# Altium integrated library Microchip Thermal Management.IntLib: 360 symbols (part 4 of 10)
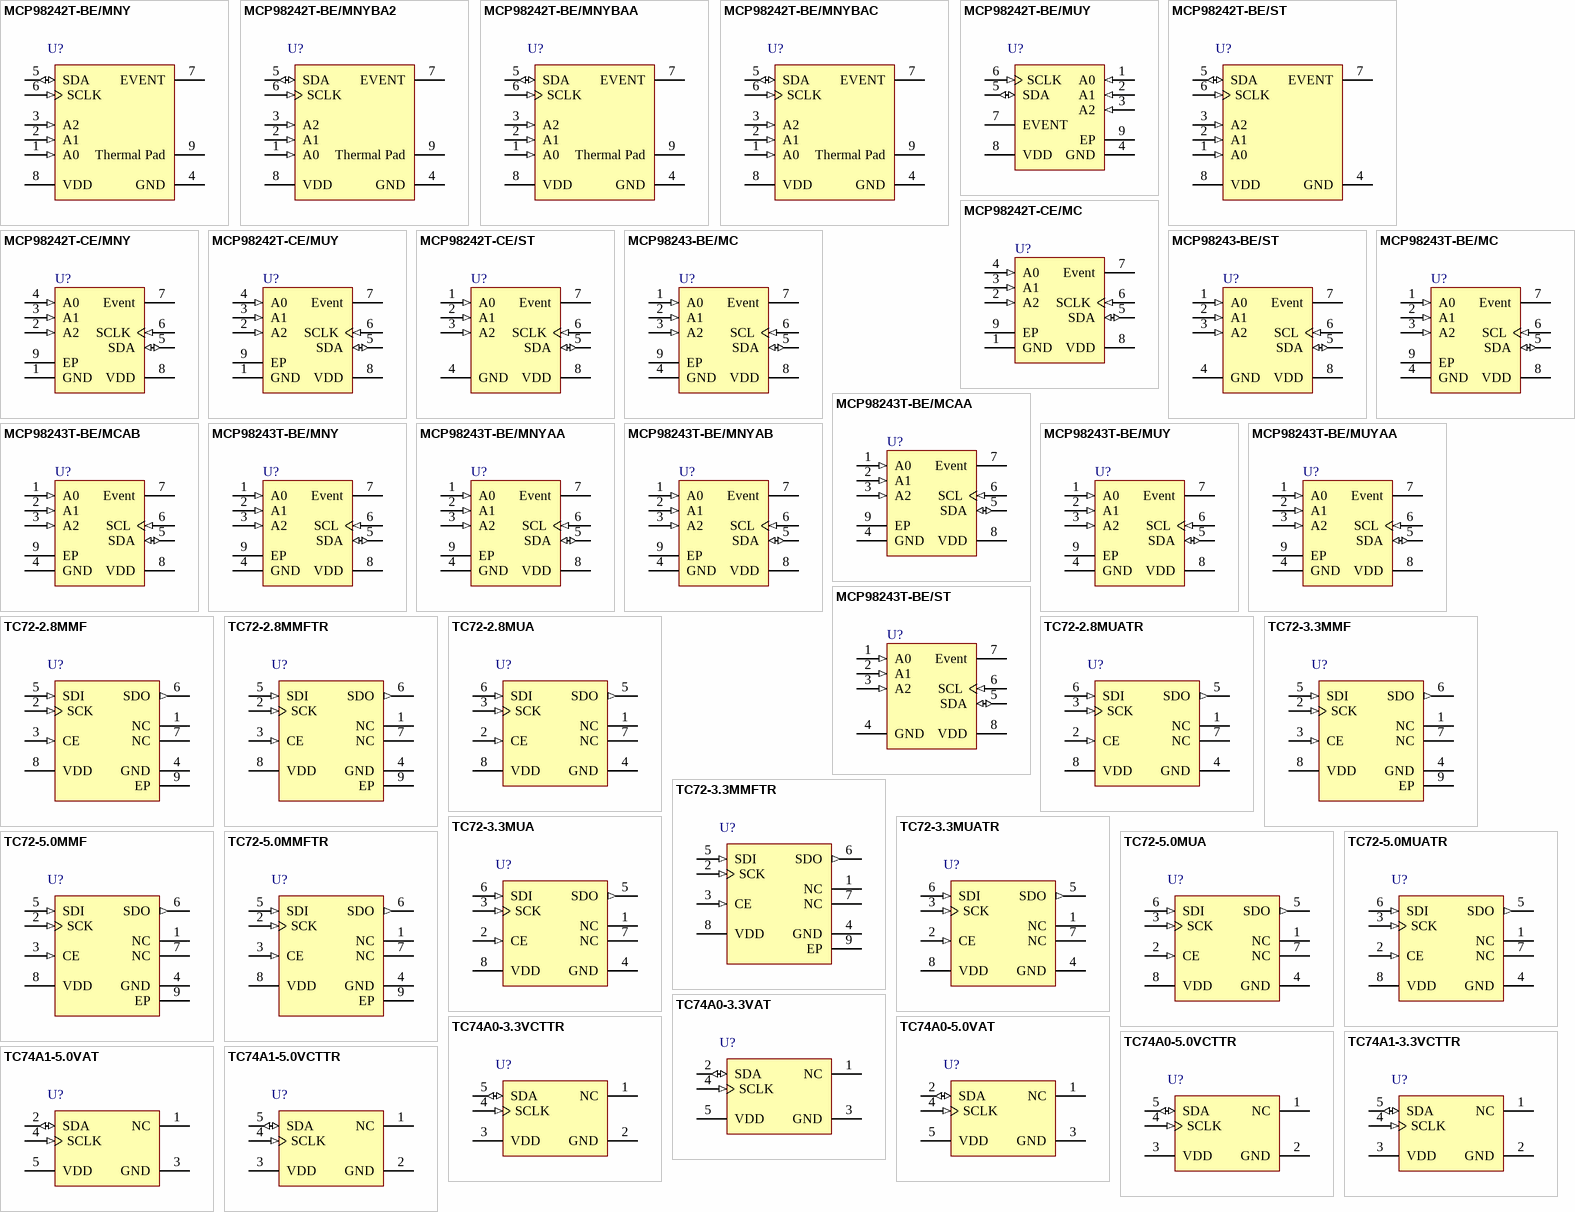
[diagram p12: symbols MCP98242T-BE/MNY to TC74A1-5.0VCTTR]

## TC72-3.3MUATR
designator U?
Digital Temperature Sensor with SPI Interface, 8-Pin MSOP, -55°C to +125°C Temperature, Tape and Reel; Manufacturer: Microchip; PartNumber: TC72-3.3MUATR; DatasheetVersion: revA, Aug-2008; PackageVersion: revBB, Aug-2009; PackageReference: MSOP-UA8; PackageDescription: 8-Lead Plastic Micro Small Outline Package (UA) [MSOP]; Supplier 1: Digi-Key; Supplier Part Number 1: TC72-3.3MUATR-ND; Supplier 2: Mouser; Supplier Part Number 2: 579-TC72-3.3MUATR; Mounting Technology: Surface Mount; Code_JEDEC: MO-187-AA; ComponentLink1Description: Manufacturer URL; ComponentLink1URL: http://www.microchip.com/; ComponentLink2Description: Datasheet; ComponentLink2URL: http://ww1.microchip.com/downloads/en/DeviceDoc/21743a.pdf; ComponentLink3Description: Package Specification; ComponentLink3URL: http://www.microchip.com/stellent/groups/techpub_sg/documents/packagingspec/en012702.pdf
footprint MSOP-UA8_N (TSOP, 8-Leads, Body 3x3mm, Pitch 0.65mm, IPC Medium Density)
footprint MSOP-UA8_L (TSOP, 8-Leads, Body 3x3mm, Pitch 0.65mm, IPC High Density)
footprint MSOP-UA8_M (TSOP, 8-Leads, Body 3x3mm, Pitch 0.65mm, IPC Low Density)
pins: 1 NC, 2 CE (in), 3 SCK (in), 4 GND (power), 5 SDO (out), 6 SDI (in), 7 NC, 8 VDD (power)

## TC72-5.0MMF
designator U?
Digital Temperature Sensor with SPI Interface, 8-Pin DFN, -55°C to +125°C Temperature; Manufacturer: Microchip; PartNumber: TC72-5.0MMF; DatasheetVersion: revA, Aug-2008; PackageVersion: revBB, Aug-2009; PackageReference: DFN-MF8; PackageDescription: 8-Lead Plastic Dual Flat, No Lead Package (MF) - 3x3x0.9mm Body [DFN]; Mounting Technology: Surface Mount; ComponentLink1Description: Manufacturer URL; ComponentLink1URL: http://www.microchip.com/; ComponentLink2Description: Datasheet; ComponentLink2URL: http://ww1.microchip.com/downloads/en/DeviceDoc/21743a.pdf; ComponentLink3Description: Package Specification; ComponentLink3URL: http://www.microchip.com/stellent/groups/techpub_sg/documents/packagingspec/en012702.pdf
footprint DFN-MF8 (SON, 8-Leads, Body 3x3mm, Pitch 0.65mm, Microchip Recommended)
pins: 1 NC, 2 SCK (in), 3 CE (in), 4 GND (power), 5 SDI (in), 6 SDO (out), 7 NC, 8 VDD (power), 9 EP (power)

## TC72-5.0MMFTR
designator U?
Digital Temperature Sensor with SPI Interface, 8-Pin DFN, -55°C to +125°C Temperature, Tape and Reel; Manufacturer: Microchip; PartNumber: TC72-5.0MMFTR; DatasheetVersion: revA, Aug-2008; PackageVersion: revBB, Aug-2009; PackageReference: DFN-MF8; PackageDescription: 8-Lead Plastic Dual Flat, No Lead Package (MF) - 3x3x0.9mm Body [DFN]; Supplier 1: Digi-Key; Supplier Part Number 1: TC72-5.0MMFTR-ND; Supplier 2: Mouser; Supplier Part Number 2: 579-TC72-5.0MMFTR; Mounting Technology: Surface Mount; ComponentLink1Description: Manufacturer URL; ComponentLink1URL: http://www.microchip.com/; ComponentLink2Description: Datasheet; ComponentLink2URL: http://ww1.microchip.com/downloads/en/DeviceDoc/21743a.pdf; ComponentLink3Description: Package Specification; ComponentLink3URL: http://www.microchip.com/stellent/groups/techpub_sg/documents/packagingspec/en012702.pdf
footprint DFN-MF8 (SON, 8-Leads, Body 3x3mm, Pitch 0.65mm, Microchip Recommended)
pins: 1 NC, 2 SCK (in), 3 CE (in), 4 GND (power), 5 SDI (in), 6 SDO (out), 7 NC, 8 VDD (power), 9 EP (power)

## TC72-5.0MUA
designator U?
Digital Temperature Sensor with SPI Interface, 8-Pin MSOP, -55°C to +125°C Temperature; Manufacturer: Microchip; PartNumber: TC72-5.0MUA; DatasheetVersion: revA, Aug-2008; PackageVersion: revBB, Aug-2009; PackageReference: MSOP-UA8; PackageDescription: 8-Lead Plastic Micro Small Outline Package (UA) [MSOP]; Supplier 1: Digi-Key; Supplier Part Number 1: TC72-5.0MUA-ND; Supplier 2: Farnell; Supplier Part Number 2: 1467819; Supplier 3: Newark; Supplier Part Number 3: 69K7657; Supplier 4: Mouser; Supplier Part Number 4: 579-TC72-5.0MUA; Mounting Technology: Surface Mount; Code_JEDEC: MO-187-AA; ComponentLink1Description: Manufacturer URL; ComponentLink1URL: http://www.microchip.com/; ComponentLink2Description: Datasheet; ComponentLink2URL: http://ww1.microchip.com/downloads/en/DeviceDoc/21743a.pdf; ComponentLink3Description: Package Specification; ComponentLink3URL: http://www.microchip.com/stellent/groups/techpub_sg/documents/packagingspec/en012702.pdf
footprint MSOP-UA8_N (TSOP, 8-Leads, Body 3x3mm, Pitch 0.65mm, IPC Medium Density)
footprint MSOP-UA8_L (TSOP, 8-Leads, Body 3x3mm, Pitch 0.65mm, IPC High Density)
footprint MSOP-UA8_M (TSOP, 8-Leads, Body 3x3mm, Pitch 0.65mm, IPC Low Density)
pins: 1 NC, 2 CE (in), 3 SCK (in), 4 GND (power), 5 SDO (out), 6 SDI (in), 7 NC, 8 VDD (power)

## TC72-5.0MUATR
designator U?
Digital Temperature Sensor with SPI Interface, 8-Pin MSOP, -55°C to +125°C Temperature, Tape and Reel; Manufacturer: Microchip; PartNumber: TC72-5.0MUATR; DatasheetVersion: revA, Aug-2008; PackageVersion: revBB, Aug-2009; PackageReference: MSOP-UA8; PackageDescription: 8-Lead Plastic Micro Small Outline Package (UA) [MSOP]; Supplier 1: Digi-Key; Supplier Part Number 1: TC72-5.0MUATR-ND; Supplier 2: Mouser; Supplier Part Number 2: 579-TC72-5.0MUATR; Mounting Technology: Surface Mount; Code_JEDEC: MO-187-AA; ComponentLink1Description: Manufacturer URL; ComponentLink1URL: http://www.microchip.com/; ComponentLink2Description: Datasheet; ComponentLink2URL: http://ww1.microchip.com/downloads/en/DeviceDoc/21743a.pdf; ComponentLink3Description: Package Specification; ComponentLink3URL: http://www.microchip.com/stellent/groups/techpub_sg/documents/packagingspec/en012702.pdf
footprint MSOP-UA8_N (TSOP, 8-Leads, Body 3x3mm, Pitch 0.65mm, IPC Medium Density)
footprint MSOP-UA8_L (TSOP, 8-Leads, Body 3x3mm, Pitch 0.65mm, IPC High Density)
footprint MSOP-UA8_M (TSOP, 8-Leads, Body 3x3mm, Pitch 0.65mm, IPC Low Density)
pins: 1 NC, 2 CE (in), 3 SCK (in), 4 GND (power), 5 SDO (out), 6 SDI (in), 7 NC, 8 VDD (power)

## TC74A0-3.3VAT
designator U?
Tiny Serial Digital Thermal Sensor, 5-Pin TO-220, Extended Temperature; Manufacturer: Microchip; PartNumber: TC74A0-3.3VAT; DatasheetVersion: revC, Oct-2002; PackageVersion: revBB, Aug-2009; PackageReference: TO-220-AT5; PackageDescription: 5-Lead Plastic Transistor Outline (AT) [TO-220]; Supplier 1: Digi-Key; Supplier Part Number 1: TC74A0-3.3VAT-ND; Supplier 2: Farnell; Supplier Part Number 2: 1863985; Supplier 3: Newark; Supplier Part Number 3: 92C6552; Supplier 4: Mouser; Supplier Part Number 4: 579-TC74A0-3.3VAT; Mounting Technology: Through Hole; ComponentLink1Description: Manufacturer URL; ComponentLink1URL: http://www.microchip.com/; ComponentLink2Description: Datasheet; ComponentLink2URL: http://ww1.microchip.com/downloads/en/DeviceDoc/21462c.pdf; ComponentLink3Description: Package Specification; ComponentLink3URL: http://www.microchip.com/stellent/groups/techpub_sg/documents/packagingspec/en012702.pdf
footprint TO-220-AT5 (TO, Thru-Hole, Vertical, Heatsink Mounted; 5 In-Line Leads; Pitch 1.70 mm)
pins: 1 NC, 2 SDA (io), 3 GND (power), 4 SCLK (in), 5 VDD (power)

## TC74A0-3.3VCTTR
designator U?
Tiny Serial Digital Thermal Sensor, 5-Pin SOT-23, Extended Temperature, Tape and Reel; Manufacturer: Microchip; PartNumber: TC74A0-3.3VCTTR; DatasheetVersion: revC, Oct-2002; PackageVersion: revBB, Aug-2009; PackageReference: SOT-23-CT5; PackageDescription: 5-Lead Plastic Small Outline Transistor (CT) [SOT-23]; Supplier 1: Digi-Key; Supplier Part Number 1: TC74A0-3.3VCTTR-ND; Supplier 2: Digi-Key; Supplier Part Number 2: TC74A0-3.3VCTCT-ND; Supplier 3: Digi-Key; Supplier Part Number 3: TC74A0-3.3VCTDKR-ND; Supplier 4: Farnell; Supplier Part Number 4: 1852306RL; Supplier 5: Farnell; Supplier Part Number 5: 1852306; Supplier 6: Newark; Supplier Part Number 6: 84R6274; Supplier 7: Mouser; Supplier Part Number 7: 579-TC74A0-3.3VCTTR; Mounting Technology: Surface Mount; Code_IPC: SOT23-5; ComponentLink1Description: Manufacturer URL; ComponentLink1URL: http://www.microchip.com/; ComponentLink2Description: Datasheet; ComponentLink2URL: http://ww1.microchip.com/downloads/en/DeviceDoc/21462c.pdf; ComponentLink3Description: Package Specification; ComponentLink3URL: http://www.microchip.com/stellent/groups/techpub_sg/documents/packagingspec/en012702.pdf
footprint SOT-23-CT5_N (SOT23, 5-Leads, Body 2.9x1.6mm, Pitch 0.95mm, Lead Span 2.7mm, IPC Medium Density)
footprint SOT-23-CT5_L (SOT23, 5-Leads, Body 2.9x1.6mm, Pitch 0.95mm, Lead Span 2.7mm, IPC High Density)
footprint SOT-23-CT5_M (SOT23, 5-Leads, Body 2.9x1.6mm, Pitch 0.95mm, Lead Span 2.7mm, IPC Low Density)
pins: 1 NC, 2 GND (power), 3 VDD (power), 4 SCLK (in), 5 SDA (io)

## TC74A0-5.0VAT
designator U?
Tiny Serial Digital Thermal Sensor, 5-Pin TO-220, Extended Temperature; Manufacturer: Microchip; PartNumber: TC74A0-5.0VAT; DatasheetVersion: revC, Oct-2002; PackageVersion: revBB, Aug-2009; PackageReference: TO-220-AT5; PackageDescription: 5-Lead Plastic Transistor Outline (AT) [TO-220]; Supplier 1: Digi-Key; Supplier Part Number 1: TC74A0-5.0VAT-ND; Supplier 2: Farnell; Supplier Part Number 2: 1332317; Supplier 3: Newark; Supplier Part Number 3: 92C6554; Supplier 4: Mouser; Supplier Part Number 4: 579-TC74A0-5.0VAT; Mounting Technology: Through Hole; ComponentLink1Description: Manufacturer URL; ComponentLink1URL: http://www.microchip.com/; ComponentLink2Description: Datasheet; ComponentLink2URL: http://ww1.microchip.com/downloads/en/DeviceDoc/21462c.pdf; ComponentLink3Description: Package Specification; ComponentLink3URL: http://www.microchip.com/stellent/groups/techpub_sg/documents/packagingspec/en012702.pdf
footprint TO-220-AT5 (TO, Thru-Hole, Vertical, Heatsink Mounted; 5 In-Line Leads; Pitch 1.70 mm)
pins: 1 NC, 2 SDA (io), 3 GND (power), 4 SCLK (in), 5 VDD (power)

## TC74A0-5.0VCTTR
designator U?
Tiny Serial Digital Thermal Sensor, 5-Pin SOT-23, Extended Temperature, Tape and Reel; Manufacturer: Microchip; PartNumber: TC74A0-5.0VCTTR; DatasheetVersion: revC, Oct-2002; PackageVersion: revBB, Aug-2009; PackageReference: SOT-23-CT5; PackageDescription: 5-Lead Plastic Small Outline Transistor (CT) [SOT-23]; Supplier 1: Digi-Key; Supplier Part Number 1: TC74A0-5.0VCTTR-ND; Supplier 2: Digi-Key; Supplier Part Number 2: TC74A0-5.0VCTCT-ND; Supplier 3: Digi-Key; Supplier Part Number 3: TC74A0-5.0VCTDKR-ND; Supplier 4: Farnell; Supplier Part Number 4: 9762671RL; Supplier 5: Farnell; Supplier Part Number 5: 9762671; Supplier 6: Newark; Supplier Part Number 6: 24M8121; Supplier 7: Newark; Supplier Part Number 7: 92C6555; Supplier 8: Mouser; Supplier Part Number 8: 579-TC74A0-5.0VCTTR; Mounting Technology: Surface Mount; Code_IPC: SOT23-5; ComponentLink1Description: Manufacturer URL; ComponentLink1URL: http://www.microchip.com/; ComponentLink2Description: Datasheet; ComponentLink2URL: http://ww1.microchip.com/downloads/en/DeviceDoc/21462c.pdf; ComponentLink3Description: Package Specification; ComponentLink3URL: http://www.microchip.com/stellent/groups/techpub_sg/documents/packagingspec/en012702.pdf
footprint SOT-23-CT5_N (SOT23, 5-Leads, Body 2.9x1.6mm, Pitch 0.95mm, Lead Span 2.7mm, IPC Medium Density)
footprint SOT-23-CT5_L (SOT23, 5-Leads, Body 2.9x1.6mm, Pitch 0.95mm, Lead Span 2.7mm, IPC High Density)
footprint SOT-23-CT5_M (SOT23, 5-Leads, Body 2.9x1.6mm, Pitch 0.95mm, Lead Span 2.7mm, IPC Low Density)
pins: 1 NC, 2 GND (power), 3 VDD (power), 4 SCLK (in), 5 SDA (io)

## TC74A1-3.3VCTTR
designator U?
Tiny Serial Digital Thermal Sensor, 5-Pin SOT-23, Extended Temperature, Tape and Reel; Manufacturer: Microchip; PartNumber: TC74A1-3.3VCTTR; DatasheetVersion: revC, Oct-2002; PackageVersion: revBB, Aug-2009; PackageReference: SOT-23-CT5; PackageDescription: 5-Lead Plastic Small Outline Transistor (CT) [SOT-23]; Supplier 1: Digi-Key; Supplier Part Number 1: TC74A1-3.3VCTTR-ND; Supplier 2: Newark; Supplier Part Number 2: 92C6557; Supplier 3: Mouser; Supplier Part Number 3: 579-TC74A1-3.3VCTTR; Mounting Technology: Surface Mount; Code_IPC: SOT23-5; ComponentLink1Description: Manufacturer URL; ComponentLink1URL: http://www.microchip.com/; ComponentLink2Description: Datasheet; ComponentLink2URL: http://ww1.microchip.com/downloads/en/DeviceDoc/21462c.pdf; ComponentLink3Description: Package Specification; ComponentLink3URL: http://www.microchip.com/stellent/groups/techpub_sg/documents/packagingspec/en012702.pdf
footprint SOT-23-CT5_N (SOT23, 5-Leads, Body 2.9x1.6mm, Pitch 0.95mm, Lead Span 2.7mm, IPC Medium Density)
footprint SOT-23-CT5_L (SOT23, 5-Leads, Body 2.9x1.6mm, Pitch 0.95mm, Lead Span 2.7mm, IPC High Density)
footprint SOT-23-CT5_M (SOT23, 5-Leads, Body 2.9x1.6mm, Pitch 0.95mm, Lead Span 2.7mm, IPC Low Density)
pins: 1 NC, 2 GND (power), 3 VDD (power), 4 SCLK (in), 5 SDA (io)

## TC74A1-5.0VAT
designator U?
Tiny Serial Digital Thermal Sensor, 5-Pin TO-220, Extended Temperature; Manufacturer: Microchip; PartNumber: TC74A1-5.0VAT; DatasheetVersion: revC, Oct-2002; PackageVersion: revBB, Aug-2009; PackageReference: TO-220-AT5; PackageDescription: 5-Lead Plastic Transistor Outline (AT) [TO-220]; Supplier 1: Digi-Key; Supplier Part Number 1: TC74A1-5.0VAT-ND; Supplier 2: Mouser; Supplier Part Number 2: 579-TC74A1-5.0VAT; Mounting Technology: Through Hole; ComponentLink1Description: Manufacturer URL; ComponentLink1URL: http://www.microchip.com/; ComponentLink2Description: Datasheet; ComponentLink2URL: http://ww1.microchip.com/downloads/en/DeviceDoc/21462c.pdf; ComponentLink3Description: Package Specification; ComponentLink3URL: http://www.microchip.com/stellent/groups/techpub_sg/documents/packagingspec/en012702.pdf
footprint TO-220-AT5 (TO, Thru-Hole, Vertical, Heatsink Mounted; 5 In-Line Leads; Pitch 1.70 mm)
pins: 1 NC, 2 SDA (io), 3 GND (power), 4 SCLK (in), 5 VDD (power)

## TC74A1-5.0VCTTR
designator U?
Tiny Serial Digital Thermal Sensor, 5-Pin SOT-23, Extended Temperature, Tape and Reel; Manufacturer: Microchip; PartNumber: TC74A1-5.0VCTTR; DatasheetVersion: revC, Oct-2002; PackageVersion: revBB, Aug-2009; PackageReference: SOT-23-CT5; PackageDescription: 5-Lead Plastic Small Outline Transistor (CT) [SOT-23]; Supplier 1: Digi-Key; Supplier Part Number 1: TC74A1-5.0VCTTR-ND; Supplier 2: Mouser; Supplier Part Number 2: 579-TC74A1-5.0VCTTR; Mounting Technology: Surface Mount; Code_IPC: SOT23-5; ComponentLink1Description: Manufacturer URL; ComponentLink1URL: http://www.microchip.com/; ComponentLink2Description: Datasheet; ComponentLink2URL: http://ww1.microchip.com/downloads/en/DeviceDoc/21462c.pdf; ComponentLink3Description: Package Specification; ComponentLink3URL: http://www.microchip.com/stellent/groups/techpub_sg/documents/packagingspec/en012702.pdf
footprint SOT-23-CT5_N (SOT23, 5-Leads, Body 2.9x1.6mm, Pitch 0.95mm, Lead Span 2.7mm, IPC Medium Density)
footprint SOT-23-CT5_L (SOT23, 5-Leads, Body 2.9x1.6mm, Pitch 0.95mm, Lead Span 2.7mm, IPC High Density)
footprint SOT-23-CT5_M (SOT23, 5-Leads, Body 2.9x1.6mm, Pitch 0.95mm, Lead Span 2.7mm, IPC Low Density)
pins: 1 NC, 2 GND (power), 3 VDD (power), 4 SCLK (in), 5 SDA (io)

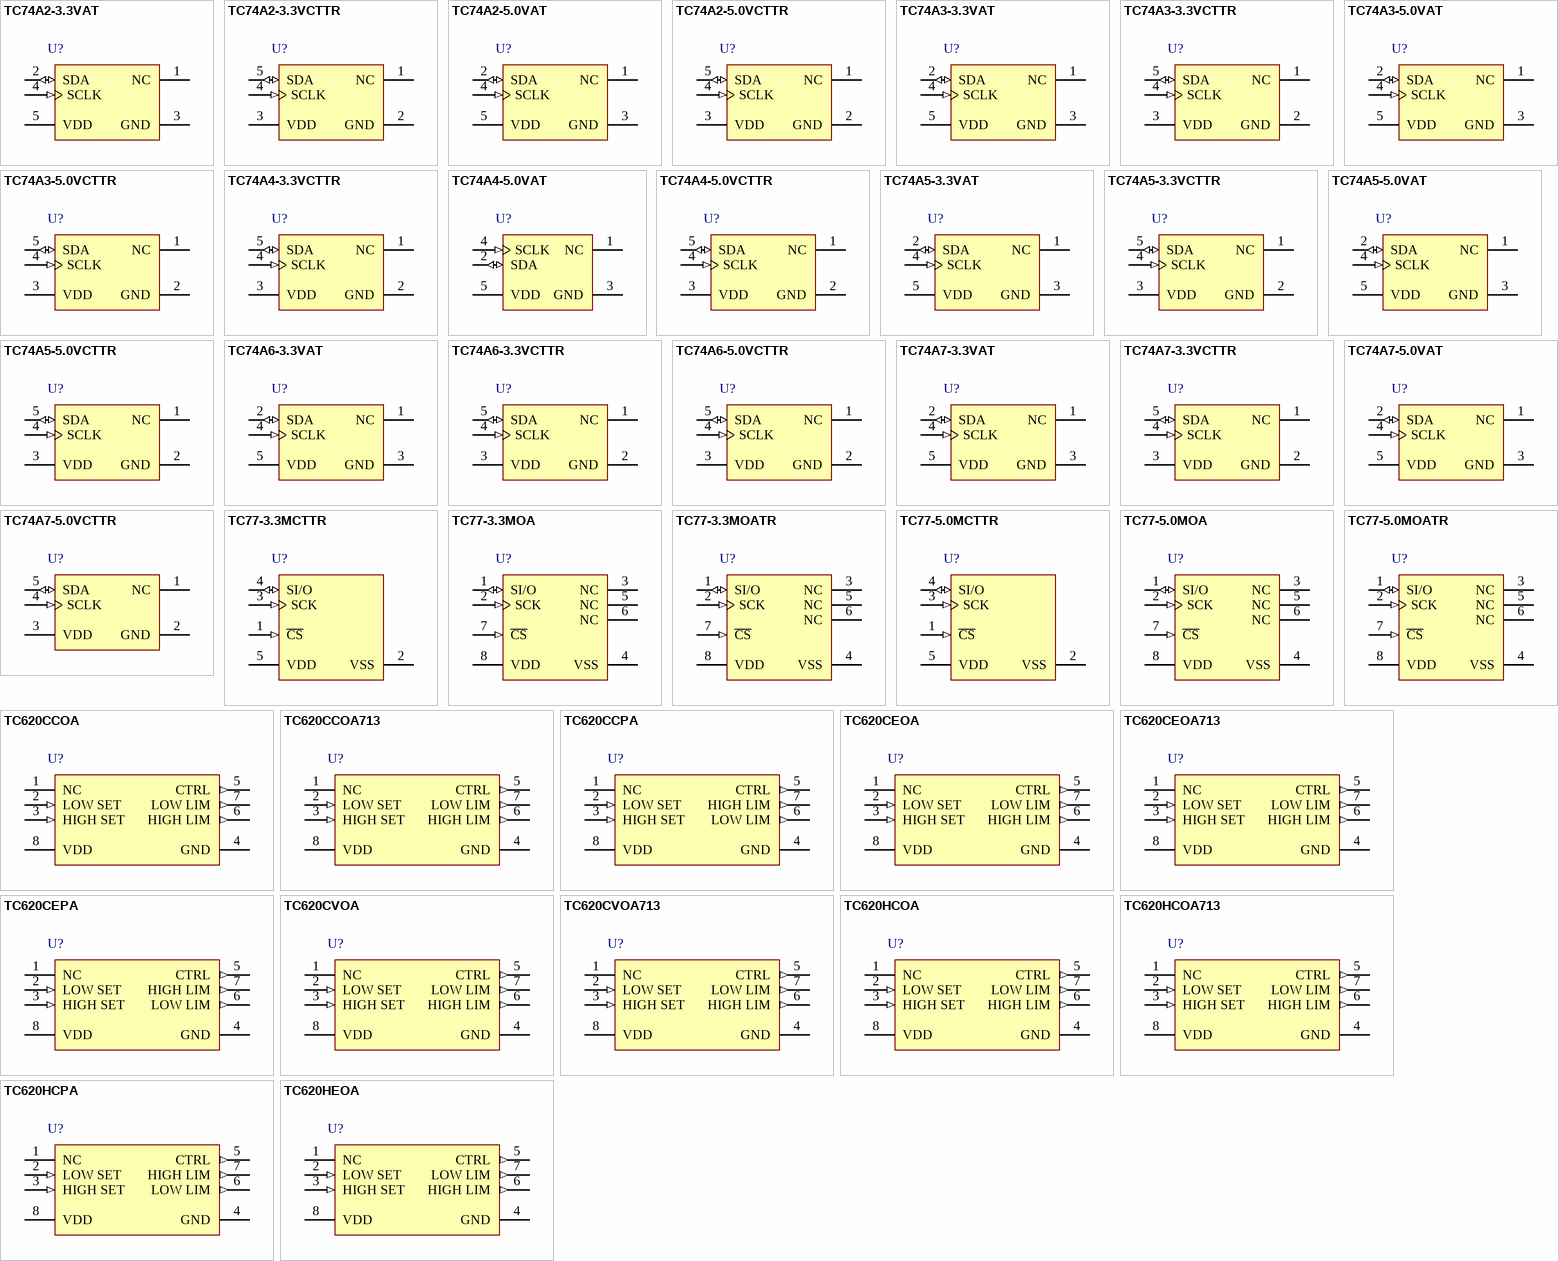
[diagram p3: symbols TC74A2-3.3VAT to TC620HEOA]

## TC74A2-3.3VAT
designator U?
Tiny Serial Digital Thermal Sensor, 5-Pin TO-220, Extended Temperature; Manufacturer: Microchip; PartNumber: TC74A2-3.3VAT; DatasheetVersion: revC, Oct-2002; PackageVersion: revBB, Aug-2009; PackageReference: TO-220-AT5; PackageDescription: 5-Lead Plastic Transistor Outline (AT) [TO-220]; Supplier 1: Digi-Key; Supplier Part Number 1: TC74A2-3.3VAT-ND; Supplier 2: Mouser; Supplier Part Number 2: 579-TC74A2-3.3VAT; Mounting Technology: Through Hole; ComponentLink1Description: Manufacturer URL; ComponentLink1URL: http://www.microchip.com/; ComponentLink2Description: Datasheet; ComponentLink2URL: http://ww1.microchip.com/downloads/en/DeviceDoc/21462c.pdf; ComponentLink3Description: Package Specification; ComponentLink3URL: http://www.microchip.com/stellent/groups/techpub_sg/documents/packagingspec/en012702.pdf
footprint TO-220-AT5 (TO, Thru-Hole, Vertical, Heatsink Mounted; 5 In-Line Leads; Pitch 1.70 mm)
pins: 1 NC, 2 SDA (io), 3 GND (power), 4 SCLK (in), 5 VDD (power)

## TC74A2-3.3VCTTR
designator U?
Tiny Serial Digital Thermal Sensor, 5-Pin SOT-23, Extended Temperature, Tape and Reel; Manufacturer: Microchip; PartNumber: TC74A2-3.3VCTTR; DatasheetVersion: revC, Oct-2002; PackageVersion: revBB, Aug-2009; PackageReference: SOT-23-CT5; PackageDescription: 5-Lead Plastic Small Outline Transistor (CT) [SOT-23]; Supplier 1: Digi-Key; Supplier Part Number 1: TC74A2-3.3VCTTR-ND; Supplier 2: Newark; Supplier Part Number 2: 92C6561; Supplier 3: Mouser; Supplier Part Number 3: 579-TC74A2-3.3VCTTR; Mounting Technology: Surface Mount; Code_IPC: SOT23-5; ComponentLink1Description: Manufacturer URL; ComponentLink1URL: http://www.microchip.com/; ComponentLink2Description: Datasheet; ComponentLink2URL: http://ww1.microchip.com/downloads/en/DeviceDoc/21462c.pdf; ComponentLink3Description: Package Specification; ComponentLink3URL: http://www.microchip.com/stellent/groups/techpub_sg/documents/packagingspec/en012702.pdf
footprint SOT-23-CT5_N (SOT23, 5-Leads, Body 2.9x1.6mm, Pitch 0.95mm, Lead Span 2.7mm, IPC Medium Density)
footprint SOT-23-CT5_L (SOT23, 5-Leads, Body 2.9x1.6mm, Pitch 0.95mm, Lead Span 2.7mm, IPC High Density)
footprint SOT-23-CT5_M (SOT23, 5-Leads, Body 2.9x1.6mm, Pitch 0.95mm, Lead Span 2.7mm, IPC Low Density)
pins: 1 NC, 2 GND (power), 3 VDD (power), 4 SCLK (in), 5 SDA (io)

## TC74A2-5.0VAT
designator U?
Tiny Serial Digital Thermal Sensor, 5-Pin TO-220, Extended Temperature; Manufacturer: Microchip; PartNumber: TC74A2-5.0VAT; DatasheetVersion: revC, Oct-2002; PackageVersion: revBB, Aug-2009; PackageReference: TO-220-AT5; PackageDescription: 5-Lead Plastic Transistor Outline (AT) [TO-220]; Supplier 1: Digi-Key; Supplier Part Number 1: TC74A2-5.0VAT-ND; Supplier 2: Farnell; Supplier Part Number 2: 1627206; Supplier 3: Newark; Supplier Part Number 3: 84P5926; Supplier 4: Newark; Supplier Part Number 4: 92C6562; Supplier 5: Mouser; Supplier Part Number 5: 579-TC74A2-5.0VAT; Mounting Technology: Through Hole; ComponentLink1Description: Manufacturer URL; ComponentLink1URL: http://www.microchip.com/; ComponentLink2Description: Datasheet; ComponentLink2URL: http://ww1.microchip.com/downloads/en/DeviceDoc/21462c.pdf; ComponentLink3Description: Package Specification; ComponentLink3URL: http://www.microchip.com/stellent/groups/techpub_sg/documents/packagingspec/en012702.pdf
footprint TO-220-AT5 (TO, Thru-Hole, Vertical, Heatsink Mounted; 5 In-Line Leads; Pitch 1.70 mm)
pins: 1 NC, 2 SDA (io), 3 GND (power), 4 SCLK (in), 5 VDD (power)

## TC74A2-5.0VCTTR
designator U?
Tiny Serial Digital Thermal Sensor, 5-Pin SOT-23, Extended Temperature, Tape and Reel; Manufacturer: Microchip; PartNumber: TC74A2-5.0VCTTR; DatasheetVersion: revC, Oct-2002; PackageVersion: revBB, Aug-2009; PackageReference: SOT-23-CT5; PackageDescription: 5-Lead Plastic Small Outline Transistor (CT) [SOT-23]; Supplier 1: Digi-Key; Supplier Part Number 1: TC74A2-5.0VCTTR-ND; Supplier 2: Mouser; Supplier Part Number 2: 579-TC74A2-5.0VCTTR; Mounting Technology: Surface Mount; Code_IPC: SOT23-5; ComponentLink1Description: Manufacturer URL; ComponentLink1URL: http://www.microchip.com/; ComponentLink2Description: Datasheet; ComponentLink2URL: http://ww1.microchip.com/downloads/en/DeviceDoc/21462c.pdf; ComponentLink3Description: Package Specification; ComponentLink3URL: http://www.microchip.com/stellent/groups/techpub_sg/documents/packagingspec/en012702.pdf
footprint SOT-23-CT5_N (SOT23, 5-Leads, Body 2.9x1.6mm, Pitch 0.95mm, Lead Span 2.7mm, IPC Medium Density)
footprint SOT-23-CT5_L (SOT23, 5-Leads, Body 2.9x1.6mm, Pitch 0.95mm, Lead Span 2.7mm, IPC High Density)
footprint SOT-23-CT5_M (SOT23, 5-Leads, Body 2.9x1.6mm, Pitch 0.95mm, Lead Span 2.7mm, IPC Low Density)
pins: 1 NC, 2 GND (power), 3 VDD (power), 4 SCLK (in), 5 SDA (io)

## TC74A3-3.3VAT
designator U?
Tiny Serial Digital Thermal Sensor, 5-Pin TO-220, Extended Temperature; Manufacturer: Microchip; PartNumber: TC74A3-3.3VAT; DatasheetVersion: revC, Oct-2002; PackageVersion: revBB, Aug-2009; PackageReference: TO-220-AT5; PackageDescription: 5-Lead Plastic Transistor Outline (AT) [TO-220]; Supplier 1: Digi-Key; Supplier Part Number 1: TC74A3-3.3VAT-ND; Supplier 2: Newark; Supplier Part Number 2: 92C6564; Supplier 3: Mouser; Supplier Part Number 3: 579-TC74A3-3.3VAT; Mounting Technology: Through Hole; ComponentLink1Description: Manufacturer URL; ComponentLink1URL: http://www.microchip.com/; ComponentLink2Description: Datasheet; ComponentLink2URL: http://ww1.microchip.com/downloads/en/DeviceDoc/21462c.pdf; ComponentLink3Description: Package Specification; ComponentLink3URL: http://www.microchip.com/stellent/groups/techpub_sg/documents/packagingspec/en012702.pdf
footprint TO-220-AT5 (TO, Thru-Hole, Vertical, Heatsink Mounted; 5 In-Line Leads; Pitch 1.70 mm)
pins: 1 NC, 2 SDA (io), 3 GND (power), 4 SCLK (in), 5 VDD (power)

## TC74A3-3.3VCTTR
designator U?
Tiny Serial Digital Thermal Sensor, 5-Pin SOT-23, Extended Temperature, Tape and Reel; Manufacturer: Microchip; PartNumber: TC74A3-3.3VCTTR; DatasheetVersion: revC, Oct-2002; PackageVersion: revBB, Aug-2009; PackageReference: SOT-23-CT5; PackageDescription: 5-Lead Plastic Small Outline Transistor (CT) [SOT-23]; Supplier 1: Digi-Key; Supplier Part Number 1: TC74A3-3.3VCTTR-ND; Supplier 2: Mouser; Supplier Part Number 2: 579-TC74A3-3.3VCTTR; Mounting Technology: Surface Mount; Code_IPC: SOT23-5; ComponentLink1Description: Manufacturer URL; ComponentLink1URL: http://www.microchip.com/; ComponentLink2Description: Datasheet; ComponentLink2URL: http://ww1.microchip.com/downloads/en/DeviceDoc/21462c.pdf; ComponentLink3Description: Package Specification; ComponentLink3URL: http://www.microchip.com/stellent/groups/techpub_sg/documents/packagingspec/en012702.pdf
footprint SOT-23-CT5_N (SOT23, 5-Leads, Body 2.9x1.6mm, Pitch 0.95mm, Lead Span 2.7mm, IPC Medium Density)
footprint SOT-23-CT5_L (SOT23, 5-Leads, Body 2.9x1.6mm, Pitch 0.95mm, Lead Span 2.7mm, IPC High Density)
footprint SOT-23-CT5_M (SOT23, 5-Leads, Body 2.9x1.6mm, Pitch 0.95mm, Lead Span 2.7mm, IPC Low Density)
pins: 1 NC, 2 GND (power), 3 VDD (power), 4 SCLK (in), 5 SDA (io)

## TC74A3-5.0VAT
designator U?
Tiny Serial Digital Thermal Sensor, 5-Pin TO-220, Extended Temperature; Manufacturer: Microchip; PartNumber: TC74A3-5.0VAT; DatasheetVersion: revC, Oct-2002; PackageVersion: revBB, Aug-2009; PackageReference: TO-220-AT5; PackageDescription: 5-Lead Plastic Transistor Outline (AT) [TO-220]; Supplier 1: Digi-Key; Supplier Part Number 1: TC74A3-5.0VAT-ND; Supplier 2: Farnell; Supplier Part Number 2: 1627189; Supplier 3: Newark; Supplier Part Number 3: 09P7107; Supplier 4: Mouser; Supplier Part Number 4: 579-TC74A3-5.0VAT; Mounting Technology: Through Hole; ComponentLink1Description: Manufacturer URL; ComponentLink1URL: http://www.microchip.com/; ComponentLink2Description: Datasheet; ComponentLink2URL: http://ww1.microchip.com/downloads/en/DeviceDoc/21462c.pdf; ComponentLink3Description: Package Specification; ComponentLink3URL: http://www.microchip.com/stellent/groups/techpub_sg/documents/packagingspec/en012702.pdf
footprint TO-220-AT5 (TO, Thru-Hole, Vertical, Heatsink Mounted; 5 In-Line Leads; Pitch 1.70 mm)
pins: 1 NC, 2 SDA (io), 3 GND (power), 4 SCLK (in), 5 VDD (power)

## TC74A3-5.0VCTTR
designator U?
Tiny Serial Digital Thermal Sensor, 5-Pin SOT-23, Extended Temperature, Tape and Reel; Manufacturer: Microchip; PartNumber: TC74A3-5.0VCTTR; DatasheetVersion: revC, Oct-2002; PackageVersion: revBB, Aug-2009; PackageReference: SOT-23-CT5; PackageDescription: 5-Lead Plastic Small Outline Transistor (CT) [SOT-23]; Supplier 1: Digi-Key; Supplier Part Number 1: TC74A3-5.0VCTTR-ND; Supplier 2: Mouser; Supplier Part Number 2: 579-TC74A3-5.0VCTTR; Mounting Technology: Surface Mount; Code_IPC: SOT23-5; ComponentLink1Description: Manufacturer URL; ComponentLink1URL: http://www.microchip.com/; ComponentLink2Description: Datasheet; ComponentLink2URL: http://ww1.microchip.com/downloads/en/DeviceDoc/21462c.pdf; ComponentLink3Description: Package Specification; ComponentLink3URL: http://www.microchip.com/stellent/groups/techpub_sg/documents/packagingspec/en012702.pdf
footprint SOT-23-CT5_N (SOT23, 5-Leads, Body 2.9x1.6mm, Pitch 0.95mm, Lead Span 2.7mm, IPC Medium Density)
footprint SOT-23-CT5_L (SOT23, 5-Leads, Body 2.9x1.6mm, Pitch 0.95mm, Lead Span 2.7mm, IPC High Density)
footprint SOT-23-CT5_M (SOT23, 5-Leads, Body 2.9x1.6mm, Pitch 0.95mm, Lead Span 2.7mm, IPC Low Density)
pins: 1 NC, 2 GND (power), 3 VDD (power), 4 SCLK (in), 5 SDA (io)

## TC74A4-3.3VCTTR
designator U?
Tiny Serial Digital Thermal Sensor, 5-Pin SOT-23, Extended Temperature, Tape and Reel; Manufacturer: Microchip; PartNumber: TC74A4-3.3VCTTR; DatasheetVersion: revC, Oct-2002; PackageVersion: revBB, Aug-2009; PackageReference: SOT-23-CT5; PackageDescription: 5-Lead Plastic Small Outline Transistor (CT) [SOT-23]; Supplier 1: Digi-Key; Supplier Part Number 1: TC74A4-3.3VCTTR-ND; Supplier 2: Farnell; Supplier Part Number 2: 1652471RL; Supplier 3: Farnell; Supplier Part Number 3: 1652471; Supplier 4: Newark; Supplier Part Number 4: 89K2108; Supplier 5: Mouser; Supplier Part Number 5: 579-TC74A4-3.3VCTTR; Mounting Technology: Surface Mount; Code_IPC: SOT23-5; ComponentLink1Description: Manufacturer URL; ComponentLink1URL: http://www.microchip.com/; ComponentLink2Description: Datasheet; ComponentLink2URL: http://ww1.microchip.com/downloads/en/DeviceDoc/21462c.pdf; ComponentLink3Description: Package Specification; ComponentLink3URL: http://www.microchip.com/stellent/groups/techpub_sg/documents/packagingspec/en012702.pdf
footprint SOT-23-CT5_N (SOT23, 5-Leads, Body 2.9x1.6mm, Pitch 0.95mm, Lead Span 2.7mm, IPC Medium Density)
footprint SOT-23-CT5_L (SOT23, 5-Leads, Body 2.9x1.6mm, Pitch 0.95mm, Lead Span 2.7mm, IPC High Density)
footprint SOT-23-CT5_M (SOT23, 5-Leads, Body 2.9x1.6mm, Pitch 0.95mm, Lead Span 2.7mm, IPC Low Density)
pins: 1 NC, 2 GND (power), 3 VDD (power), 4 SCLK (in), 5 SDA (io)

## TC74A4-5.0VAT
designator U?
Tiny Serial Digital Thermal Sensor, 350 uA, 2.7 to 5.5 V, -40 to 125 degC, 5-pin TO-220 (AT5), Tube; Manufacturer: Microchip; PartNumber: TC74A4-5.0VAT; DatasheetVersion: Rev. C; PackageVersion: C04-036B; PackageReference: TO-220-AT5; PackageDescription: 5-Lead Plastic Transistor Outline, 8.7 x 10.16 mm Body, 1.702 mm Pitch; Supplier 1: Digi-Key; Supplier Part Number 1: TC74A4-5.0VAT-ND; Supplier 2: Mouser; Supplier Part Number 2: 579-TC74A4-5.0VAT; Mounting Technology: Through Hole; ComponentLink1Description: Manufacturer URL; ComponentLink1URL: http://www.microchip.com; ComponentLink2Description: Datasheet; ComponentLink2URL: http://ww1.microchip.com/downloads/en/DeviceDoc/21462c.pdf; ComponentLink3Description: Package Specification; ComponentLink3URL: http://www.microchip.com/stellent/groups/techpub_sg/documents/packagingspec/en012702.pdf; ComponentLink4Description: Product URL; ComponentLink4URL: http://www.microchip.com/TC74
footprint MCHP-TO-220-AT5 (FM, 5-Leads, Body 10.16x8.7mm, Pitch 1.702mm)
pins: 1 NC "No Internal Connection", 2 SDA (io) "SMBus/I2C Serial Data", 3 GND (power) "System Ground", 4 SCLK (in) "SMBus/I2C Serial Clock", 5 VDD (power) "Power Supply Input"

## TC74A4-5.0VCTTR
designator U?
Tiny Serial Digital Thermal Sensor, 5-Pin SOT-23, Extended Temperature, Tape and Reel; Manufacturer: Microchip; PartNumber: TC74A4-5.0VCTTR; DatasheetVersion: revC, Oct-2002; PackageVersion: revBB, Aug-2009; PackageReference: SOT-23-CT5; PackageDescription: 5-Lead Plastic Small Outline Transistor (CT) [SOT-23]; Supplier 1: Digi-Key; Supplier Part Number 1: TC74A4-5.0VCTTR-ND; Supplier 2: Mouser; Supplier Part Number 2: 579-TC74A4-5.0VCTTR; Mounting Technology: Surface Mount; Code_IPC: SOT23-5; ComponentLink1Description: Manufacturer URL; ComponentLink1URL: http://www.microchip.com/; ComponentLink2Description: Datasheet; ComponentLink2URL: http://ww1.microchip.com/downloads/en/DeviceDoc/21462c.pdf; ComponentLink3Description: Package Specification; ComponentLink3URL: http://www.microchip.com/stellent/groups/techpub_sg/documents/packagingspec/en012702.pdf
footprint SOT-23-CT5_N (SOT23, 5-Leads, Body 2.9x1.6mm, Pitch 0.95mm, Lead Span 2.7mm, IPC Medium Density)
footprint SOT-23-CT5_L (SOT23, 5-Leads, Body 2.9x1.6mm, Pitch 0.95mm, Lead Span 2.7mm, IPC High Density)
footprint SOT-23-CT5_M (SOT23, 5-Leads, Body 2.9x1.6mm, Pitch 0.95mm, Lead Span 2.7mm, IPC Low Density)
pins: 1 NC, 2 GND (power), 3 VDD (power), 4 SCLK (in), 5 SDA (io)

## TC74A5-3.3VAT
designator U?
Tiny Serial Digital Thermal Sensor, 5-Pin TO-220, Extended Temperature; Manufacturer: Microchip; PartNumber: TC74A5-3.3VAT; DatasheetVersion: revC, Oct-2002; PackageVersion: revBB, Aug-2009; PackageReference: TO-220-AT5; PackageDescription: 5-Lead Plastic Transistor Outline (AT) [TO-220]; Supplier 1: Digi-Key; Supplier Part Number 1: TC74A5-3.3VAT-ND; Supplier 2: Mouser; Supplier Part Number 2: 579-TC74A5-3.3VAT; Mounting Technology: Through Hole; ComponentLink1Description: Manufacturer URL; ComponentLink1URL: http://www.microchip.com/; ComponentLink2Description: Datasheet; ComponentLink2URL: http://ww1.microchip.com/downloads/en/DeviceDoc/21462c.pdf; ComponentLink3Description: Package Specification; ComponentLink3URL: http://www.microchip.com/stellent/groups/techpub_sg/documents/packagingspec/en012702.pdf
footprint TO-220-AT5 (TO, Thru-Hole, Vertical, Heatsink Mounted; 5 In-Line Leads; Pitch 1.70 mm)
pins: 1 NC, 2 SDA (io), 3 GND (power), 4 SCLK (in), 5 VDD (power)

## TC74A5-3.3VCTTR
designator U?
Tiny Serial Digital Thermal Sensor, 5-Pin SOT-23, Extended Temperature, Tape and Reel; Manufacturer: Microchip; PartNumber: TC74A5-3.3VCTTR; DatasheetVersion: revC, Oct-2002; PackageVersion: revBB, Aug-2009; PackageReference: SOT-23-CT5; PackageDescription: 5-Lead Plastic Small Outline Transistor (CT) [SOT-23]; Supplier 1: Digi-Key; Supplier Part Number 1: TC74A5-3.3VCTTR-ND; Supplier 2: Digi-Key; Supplier Part Number 2: TC74A5-3.3VCTCT-ND; Supplier 3: Digi-Key; Supplier Part Number 3: TC74A5-3.3VCTDKR-ND; Supplier 4: Newark; Supplier Part Number 4: 92C6572; Supplier 5: Mouser; Supplier Part Number 5: 579-TC74A5-3.3VCTTR; Mounting Technology: Surface Mount; Code_IPC: SOT23-5; ComponentLink1Description: Manufacturer URL; ComponentLink1URL: http://www.microchip.com/; ComponentLink2Description: Datasheet; ComponentLink2URL: http://ww1.microchip.com/downloads/en/DeviceDoc/21462c.pdf; ComponentLink3Description: Package Specification; ComponentLink3URL: http://www.microchip.com/stellent/groups/techpub_sg/documents/packagingspec/en012702.pdf
footprint SOT-23-CT5_N (SOT23, 5-Leads, Body 2.9x1.6mm, Pitch 0.95mm, Lead Span 2.7mm, IPC Medium Density)
footprint SOT-23-CT5_L (SOT23, 5-Leads, Body 2.9x1.6mm, Pitch 0.95mm, Lead Span 2.7mm, IPC High Density)
footprint SOT-23-CT5_M (SOT23, 5-Leads, Body 2.9x1.6mm, Pitch 0.95mm, Lead Span 2.7mm, IPC Low Density)
pins: 1 NC, 2 GND (power), 3 VDD (power), 4 SCLK (in), 5 SDA (io)

## TC74A5-5.0VAT
designator U?
Tiny Serial Digital Thermal Sensor, 5-Pin TO-220, Extended Temperature; Manufacturer: Microchip; PartNumber: TC74A5-5.0VAT; DatasheetVersion: revC, Oct-2002; PackageVersion: revBB, Aug-2009; PackageReference: TO-220-AT5; PackageDescription: 5-Lead Plastic Transistor Outline (AT) [TO-220]; Supplier 1: Digi-Key; Supplier Part Number 1: TC74A5-5.0VAT-ND; Supplier 2: Farnell; Supplier Part Number 2: 1332318; Supplier 3: Newark; Supplier Part Number 3: 69K7658; Supplier 4: Mouser; Supplier Part Number 4: 579-TC74A5-5.0VAT; Mounting Technology: Through Hole; ComponentLink1Description: Manufacturer URL; ComponentLink1URL: http://www.microchip.com/; ComponentLink2Description: Datasheet; ComponentLink2URL: http://ww1.microchip.com/downloads/en/DeviceDoc/21462c.pdf; ComponentLink3Description: Package Specification; ComponentLink3URL: http://www.microchip.com/stellent/groups/techpub_sg/documents/packagingspec/en012702.pdf
footprint TO-220-AT5 (TO, Thru-Hole, Vertical, Heatsink Mounted; 5 In-Line Leads; Pitch 1.70 mm)
pins: 1 NC, 2 SDA (io), 3 GND (power), 4 SCLK (in), 5 VDD (power)

## TC74A5-5.0VCTTR
designator U?
Tiny Serial Digital Thermal Sensor, 5-Pin SOT-23, Extended Temperature, Tape and Reel; Manufacturer: Microchip; PartNumber: TC74A5-5.0VCTTR; DatasheetVersion: revC, Oct-2002; PackageVersion: revBB, Aug-2009; PackageReference: SOT-23-CT5; PackageDescription: 5-Lead Plastic Small Outline Transistor (CT) [SOT-23]; Supplier 1: Digi-Key; Supplier Part Number 1: TC74A5-5.0VCTTR-ND; Supplier 2: Digi-Key; Supplier Part Number 2: TC74A5-5.0VCTCT-ND; Supplier 3: Digi-Key; Supplier Part Number 3: TC74A5-5.0VCTDKR-ND; Supplier 4: Farnell; Supplier Part Number 4: 1332319; Supplier 5: Farnell; Supplier Part Number 5: 1332319RL; Supplier 6: Newark; Supplier Part Number 6: 34M8787; Supplier 7: Mouser; Supplier Part Number 7: 579-TC74A5-5.0VCTTR; Mounting Technology: Surface Mount; Code_IPC: SOT23-5; ComponentLink1Description: Manufacturer URL; ComponentLink1URL: http://www.microchip.com/; ComponentLink2Description: Datasheet; ComponentLink2URL: http://ww1.microchip.com/downloads/en/DeviceDoc/21462c.pdf; ComponentLink3Description: Package Specification; ComponentLink3URL: http://www.microchip.com/stellent/groups/techpub_sg/documents/packagingspec/en012702.pdf
footprint SOT-23-CT5_N (SOT23, 5-Leads, Body 2.9x1.6mm, Pitch 0.95mm, Lead Span 2.7mm, IPC Medium Density)
footprint SOT-23-CT5_L (SOT23, 5-Leads, Body 2.9x1.6mm, Pitch 0.95mm, Lead Span 2.7mm, IPC High Density)
footprint SOT-23-CT5_M (SOT23, 5-Leads, Body 2.9x1.6mm, Pitch 0.95mm, Lead Span 2.7mm, IPC Low Density)
pins: 1 NC, 2 GND (power), 3 VDD (power), 4 SCLK (in), 5 SDA (io)

## TC74A6-3.3VAT
designator U?
Tiny Serial Digital Thermal Sensor, 5-Pin TO-220, Extended Temperature; Manufacturer: Microchip; PartNumber: TC74A6-3.3VAT; DatasheetVersion: revC, Oct-2002; PackageVersion: revBB, Aug-2009; PackageReference: TO-220-AT5; PackageDescription: 5-Lead Plastic Transistor Outline (AT) [TO-220]; Supplier 1: Digi-Key; Supplier Part Number 1: TC74A6-3.3VAT-ND; Supplier 2: Mouser; Supplier Part Number 2: 579-TC74A6-3.3VAT; Mounting Technology: Through Hole; ComponentLink1Description: Manufacturer URL; ComponentLink1URL: http://www.microchip.com/; ComponentLink2Description: Datasheet; ComponentLink2URL: http://ww1.microchip.com/downloads/en/DeviceDoc/21462c.pdf; ComponentLink3Description: Package Specification; ComponentLink3URL: http://www.microchip.com/stellent/groups/techpub_sg/documents/packagingspec/en012702.pdf
footprint TO-220-AT5 (TO, Thru-Hole, Vertical, Heatsink Mounted; 5 In-Line Leads; Pitch 1.70 mm)
pins: 1 NC, 2 SDA (io), 3 GND (power), 4 SCLK (in), 5 VDD (power)

## TC74A6-3.3VCTTR
designator U?
Tiny Serial Digital Thermal Sensor, 5-Pin SOT-23, Extended Temperature, Tape and Reel; Manufacturer: Microchip; PartNumber: TC74A6-3.3VCTTR; DatasheetVersion: revC, Oct-2002; PackageVersion: revBB, Aug-2009; PackageReference: SOT-23-CT5; PackageDescription: 5-Lead Plastic Small Outline Transistor (CT) [SOT-23]; Supplier 1: Digi-Key; Supplier Part Number 1: TC74A6-3.3VCTTR-ND; Supplier 2: Mouser; Supplier Part Number 2: 579-TC74A6-3.3VCTTR; Mounting Technology: Surface Mount; Code_IPC: SOT23-5; ComponentLink1Description: Manufacturer URL; ComponentLink1URL: http://www.microchip.com/; ComponentLink2Description: Datasheet; ComponentLink2URL: http://ww1.microchip.com/downloads/en/DeviceDoc/21462c.pdf; ComponentLink3Description: Package Specification; ComponentLink3URL: http://www.microchip.com/stellent/groups/techpub_sg/documents/packagingspec/en012702.pdf
footprint SOT-23-CT5_N (SOT23, 5-Leads, Body 2.9x1.6mm, Pitch 0.95mm, Lead Span 2.7mm, IPC Medium Density)
footprint SOT-23-CT5_L (SOT23, 5-Leads, Body 2.9x1.6mm, Pitch 0.95mm, Lead Span 2.7mm, IPC High Density)
footprint SOT-23-CT5_M (SOT23, 5-Leads, Body 2.9x1.6mm, Pitch 0.95mm, Lead Span 2.7mm, IPC Low Density)
pins: 1 NC, 2 GND (power), 3 VDD (power), 4 SCLK (in), 5 SDA (io)

## TC74A6-5.0VCTTR
designator U?
Tiny Serial Digital Thermal Sensor, 5-Pin SOT-23, Extended Temperature, Tape and Reel; Manufacturer: Microchip; PartNumber: TC74A6-5.0VCTTR; DatasheetVersion: revC, Oct-2002; PackageVersion: revBB, Aug-2009; PackageReference: SOT-23-CT5; PackageDescription: 5-Lead Plastic Small Outline Transistor (CT) [SOT-23]; Supplier 1: Digi-Key; Supplier Part Number 1: TC74A6-5.0VCTTR-ND; Supplier 2: Mouser; Supplier Part Number 2: 579-TC74A6-5.0VCTTR; Mounting Technology: Surface Mount; Code_IPC: SOT23-5; ComponentLink1Description: Manufacturer URL; ComponentLink1URL: http://www.microchip.com/; ComponentLink2Description: Datasheet; ComponentLink2URL: http://ww1.microchip.com/downloads/en/DeviceDoc/21462c.pdf; ComponentLink3Description: Package Specification; ComponentLink3URL: http://www.microchip.com/stellent/groups/techpub_sg/documents/packagingspec/en012702.pdf
footprint SOT-23-CT5_N (SOT23, 5-Leads, Body 2.9x1.6mm, Pitch 0.95mm, Lead Span 2.7mm, IPC Medium Density)
footprint SOT-23-CT5_L (SOT23, 5-Leads, Body 2.9x1.6mm, Pitch 0.95mm, Lead Span 2.7mm, IPC High Density)
footprint SOT-23-CT5_M (SOT23, 5-Leads, Body 2.9x1.6mm, Pitch 0.95mm, Lead Span 2.7mm, IPC Low Density)
pins: 1 NC, 2 GND (power), 3 VDD (power), 4 SCLK (in), 5 SDA (io)

## TC74A7-3.3VAT
designator U?
Tiny Serial Digital Thermal Sensor, 5-Pin TO-220, Extended Temperature; Manufacturer: Microchip; PartNumber: TC74A7-3.3VAT; DatasheetVersion: revC, Oct-2002; PackageVersion: revBB, Aug-2009; PackageReference: TO-220-AT5; PackageDescription: 5-Lead Plastic Transistor Outline (AT) [TO-220]; Supplier 1: Digi-Key; Supplier Part Number 1: TC74A7-3.3VAT-ND; Supplier 2: Mouser; Supplier Part Number 2: 579-TC74A7-3.3VAT; Mounting Technology: Through Hole; ComponentLink1Description: Manufacturer URL; ComponentLink1URL: http://www.microchip.com/; ComponentLink2Description: Datasheet; ComponentLink2URL: http://ww1.microchip.com/downloads/en/DeviceDoc/21462c.pdf; ComponentLink3Description: Package Specification; ComponentLink3URL: http://www.microchip.com/stellent/groups/techpub_sg/documents/packagingspec/en012702.pdf
footprint TO-220-AT5 (TO, Thru-Hole, Vertical, Heatsink Mounted; 5 In-Line Leads; Pitch 1.70 mm)
pins: 1 NC, 2 SDA (io), 3 GND (power), 4 SCLK (in), 5 VDD (power)

## TC74A7-3.3VCTTR
designator U?
Tiny Serial Digital Thermal Sensor, 5-Pin SOT-23, Extended Temperature, Tape and Reel; Manufacturer: Microchip; PartNumber: TC74A7-3.3VCTTR; DatasheetVersion: revC, Oct-2002; PackageVersion: revBB, Aug-2009; PackageReference: SOT-23-CT5; PackageDescription: 5-Lead Plastic Small Outline Transistor (CT) [SOT-23]; Supplier 1: Digi-Key; Supplier Part Number 1: TC74A7-3.3VCTTR-ND; Supplier 2: Mouser; Supplier Part Number 2: 579-TC74A7-3.3VCTTR; Mounting Technology: Surface Mount; Code_IPC: SOT23-5; ComponentLink1Description: Manufacturer URL; ComponentLink1URL: http://www.microchip.com/; ComponentLink2Description: Datasheet; ComponentLink2URL: http://ww1.microchip.com/downloads/en/DeviceDoc/21462c.pdf; ComponentLink3Description: Package Specification; ComponentLink3URL: http://www.microchip.com/stellent/groups/techpub_sg/documents/packagingspec/en012702.pdf
footprint SOT-23-CT5_N (SOT23, 5-Leads, Body 2.9x1.6mm, Pitch 0.95mm, Lead Span 2.7mm, IPC Medium Density)
footprint SOT-23-CT5_L (SOT23, 5-Leads, Body 2.9x1.6mm, Pitch 0.95mm, Lead Span 2.7mm, IPC High Density)
footprint SOT-23-CT5_M (SOT23, 5-Leads, Body 2.9x1.6mm, Pitch 0.95mm, Lead Span 2.7mm, IPC Low Density)
pins: 1 NC, 2 GND (power), 3 VDD (power), 4 SCLK (in), 5 SDA (io)

## TC74A7-5.0VAT
designator U?
Tiny Serial Digital Thermal Sensor, 5-Pin TO-220, Extended Temperature; Manufacturer: Microchip; PartNumber: TC74A7-5.0VAT; DatasheetVersion: revC, Oct-2002; PackageVersion: revBB, Aug-2009; PackageReference: TO-220-AT5; PackageDescription: 5-Lead Plastic Transistor Outline (AT) [TO-220]; Supplier 1: Digi-Key; Supplier Part Number 1: TC74A7-5.0VAT-ND; Supplier 2: Newark; Supplier Part Number 2: 96K4047; Supplier 3: Mouser; Supplier Part Number 3: 579-TC74A7-5.0VAT; Mounting Technology: Through Hole; ComponentLink1Description: Manufacturer URL; ComponentLink1URL: http://www.microchip.com/; ComponentLink2Description: Datasheet; ComponentLink2URL: http://ww1.microchip.com/downloads/en/DeviceDoc/21462c.pdf; ComponentLink3Description: Package Specification; ComponentLink3URL: http://www.microchip.com/stellent/groups/techpub_sg/documents/packagingspec/en012702.pdf
footprint TO-220-AT5 (TO, Thru-Hole, Vertical, Heatsink Mounted; 5 In-Line Leads; Pitch 1.70 mm)
pins: 1 NC, 2 SDA (io), 3 GND (power), 4 SCLK (in), 5 VDD (power)

## TC74A7-5.0VCTTR
designator U?
Tiny Serial Digital Thermal Sensor, 5-Pin SOT-23, Extended Temperature, Tape and Reel; Manufacturer: Microchip; PartNumber: TC74A7-5.0VCTTR; DatasheetVersion: revC, Oct-2002; PackageVersion: revBB, Aug-2009; PackageReference: SOT-23-CT5; PackageDescription: 5-Lead Plastic Small Outline Transistor (CT) [SOT-23]; Supplier 1: Digi-Key; Supplier Part Number 1: TC74A7-5.0VCTTR-ND; Supplier 2: Mouser; Supplier Part Number 2: 579-TC74A7-5.0VCTTR; Mounting Technology: Surface Mount; Code_IPC: SOT23-5; ComponentLink1Description: Manufacturer URL; ComponentLink1URL: http://www.microchip.com/; ComponentLink2Description: Datasheet; ComponentLink2URL: http://ww1.microchip.com/downloads/en/DeviceDoc/21462c.pdf; ComponentLink3Description: Package Specification; ComponentLink3URL: http://www.microchip.com/stellent/groups/techpub_sg/documents/packagingspec/en012702.pdf
footprint SOT-23-CT5_N (SOT23, 5-Leads, Body 2.9x1.6mm, Pitch 0.95mm, Lead Span 2.7mm, IPC Medium Density)
footprint SOT-23-CT5_L (SOT23, 5-Leads, Body 2.9x1.6mm, Pitch 0.95mm, Lead Span 2.7mm, IPC High Density)
footprint SOT-23-CT5_M (SOT23, 5-Leads, Body 2.9x1.6mm, Pitch 0.95mm, Lead Span 2.7mm, IPC Low Density)
pins: 1 NC, 2 GND (power), 3 VDD (power), 4 SCLK (in), 5 SDA (io)

## TC77-3.3MCTTR
designator U?
Thermal Sensor with SPI Interface, 5-Pin SOT-23, -55°C to +125°C Temperature, Tape and Reel; Manufacturer: Microchip; PartNumber: TC77-3.3MCTTR; DatasheetVersion: revA, Aug-2002; PackageVersion: revBB, Aug-2009; PackageReference: SOT-23-CT5; PackageDescription: 5-Lead Plastic Small Outline Transistor (CT) [SOT-23]; Supplier 1: Digi-Key; Supplier Part Number 1: TC77-3.3MCTTRTR-ND; Supplier 2: Digi-Key; Supplier Part Number 2: TC77-3.3MCTTRCT-ND; Supplier 3: Digi-Key; Supplier Part Number 3: TC77-3.3MCTTRDKR-ND; Supplier 4: Farnell; Supplier Part Number 4: 1605583; Supplier 5: Farnell; Supplier Part Number 5: 1605583RL; Supplier 6: Newark; Supplier Part Number 6: 92C6617; Supplier 7: Mouser; Supplier Part Number 7: 579-TC77-3.3MCTTR; Mounting Technology: Surface Mount; Code_IPC: SOT23-5; ComponentLink1Description: Manufacturer URL; ComponentLink1URL: http://www.microchip.com/; ComponentLink2Description: Datasheet; ComponentLink2URL: http://ww1.microchip.com/downloads/en/DeviceDoc/20092a.pdf; ComponentLink3Description: Package Specification; ComponentLink3URL: http://www.microchip.com/stellent/groups/techpub_sg/documents/packagingspec/en012702.pdf
footprint SOT-23-CT5_N (SOT23, 5-Leads, Body 2.9x1.6mm, Pitch 0.95mm, Lead Span 2.7mm, IPC Medium Density)
footprint SOT-23-CT5_L (SOT23, 5-Leads, Body 2.9x1.6mm, Pitch 0.95mm, Lead Span 2.7mm, IPC High Density)
footprint SOT-23-CT5_M (SOT23, 5-Leads, Body 2.9x1.6mm, Pitch 0.95mm, Lead Span 2.7mm, IPC Low Density)
pins: 1 ~{CS} (in), 2 VSS (power), 3 SCK (in), 4 SI/O (io), 5 VDD (power)

## TC77-3.3MOA
designator U?
Thermal Sensor with SPI Interface, 8-Pin SOIC, -55°C to +125°C Temperature; Manufacturer: Microchip; PartNumber: TC77-3.3MOA; DatasheetVersion: revA, Aug-2002; PackageVersion: revBB, Aug-2009; PackageReference: SOIC-OA8; PackageDescription: 8-Lead Plastic Small Outline (OA) - Narrow, 3.90mm Body [SOIC]; Supplier 1: Digi-Key; Supplier Part Number 1: TC77-3.3MOA-ND; Supplier 2: Farnell; Supplier Part Number 2: 1439513; Supplier 3: Newark; Supplier Part Number 3: 59M2610; Supplier 4: Newark; Supplier Part Number 4: 92C6618; Supplier 5: Mouser; Supplier Part Number 5: 579-TC77-3.3MOA; Mounting Technology: Surface Mount; Code_IPC: SOIC127P600-8; ComponentLink1Description: Manufacturer URL; ComponentLink1URL: http://www.microchip.com/; ComponentLink2Description: Datasheet; ComponentLink2URL: http://ww1.microchip.com/downloads/en/DeviceDoc/20092a.pdf; ComponentLink3Description: Package Specification; ComponentLink3URL: http://www.microchip.com/stellent/groups/techpub_sg/documents/packagingspec/en012702.pdf
footprint SOIC-OA8_N (SOIC, 8-Leads, Body 4.9x3.9mm, Pitch 1.27mm, IPC Medium Density)
footprint SOIC-OA8_L (SOIC, 8-Leads, Body 4.9x3.9mm, Pitch 1.27mm, IPC High Density)
footprint SOIC-OA8_M (SOIC, 8-Leads, Body 4.9x3.9mm, Pitch 1.27mm, IPC Low Density)
pins: 1 SI/O (io), 2 SCK (in), 3 NC, 4 VSS (power), 5 NC, 6 NC, 7 ~{CS} (in), 8 VDD (power)

## TC77-3.3MOATR
designator U?
Thermal Sensor with SPI Interface, 8-Pin SOIC, -55°C to +125°C Temperature, Tape and Reel; Manufacturer: Microchip; PartNumber: TC77-3.3MOATR; DatasheetVersion: revA, Aug-2002; PackageVersion: revBB, Aug-2009; PackageReference: SOIC-OA8; PackageDescription: 8-Lead Plastic Small Outline (OA) - Narrow, 3.90mm Body [SOIC]; Supplier 1: Digi-Key; Supplier Part Number 1: TC77-3.3MOATR-ND; Supplier 2: Newark; Supplier Part Number 2: 92C6619; Supplier 3: Mouser; Supplier Part Number 3: 579-TC77-3.3MOATR; Mounting Technology: Surface Mount; Code_IPC: SOIC127P600-8; ComponentLink1Description: Manufacturer URL; ComponentLink1URL: http://www.microchip.com/; ComponentLink2Description: Datasheet; ComponentLink2URL: http://ww1.microchip.com/downloads/en/DeviceDoc/20092a.pdf; ComponentLink3Description: Package Specification; ComponentLink3URL: http://www.microchip.com/stellent/groups/techpub_sg/documents/packagingspec/en012702.pdf
footprint SOIC-OA8_N (SOIC, 8-Leads, Body 4.9x3.9mm, Pitch 1.27mm, IPC Medium Density)
footprint SOIC-OA8_L (SOIC, 8-Leads, Body 4.9x3.9mm, Pitch 1.27mm, IPC High Density)
footprint SOIC-OA8_M (SOIC, 8-Leads, Body 4.9x3.9mm, Pitch 1.27mm, IPC Low Density)
pins: 1 SI/O (io), 2 SCK (in), 3 NC, 4 VSS (power), 5 NC, 6 NC, 7 ~{CS} (in), 8 VDD (power)

## TC77-5.0MCTTR
designator U?
Thermal Sensor with SPI Interface, 5-Pin SOT-23, -55°C to +125°C Temperature, Tape and Reel; Manufacturer: Microchip; PartNumber: TC77-5.0MCTTR; DatasheetVersion: revA, Aug-2002; PackageVersion: revBB, Aug-2009; PackageReference: SOT-23-CT5; PackageDescription: 5-Lead Plastic Small Outline Transistor (CT) [SOT-23]; Supplier 1: Digi-Key; Supplier Part Number 1: TC77-5.0MCTTRTR-ND; Supplier 2: Digi-Key; Supplier Part Number 2: TC77-5.0MCTTRCT-ND; Supplier 3: Digi-Key; Supplier Part Number 3: TC77-5.0MCTTRDKR-ND; Supplier 4: Farnell; Supplier Part Number 4: 1292291; Supplier 5: Farnell; Supplier Part Number 5: 1292291RL; Supplier 6: Farnell; Supplier Part Number 6: 1900102; Supplier 7: Newark; Supplier Part Number 7: 96K4049; Supplier 8: Mouser; Supplier Part Number 8: 579-TC77-5.0MCTTR; Mounting Technology: Surface Mount; Code_IPC: SOT23-5; ComponentLink1Description: Manufacturer URL; ComponentLink1URL: http://www.microchip.com/; ComponentLink2Description: Datasheet; ComponentLink2URL: http://ww1.microchip.com/downloads/en/DeviceDoc/20092a.pdf; ComponentLink3Description: Package Specification; ComponentLink3URL: http://www.microchip.com/stellent/groups/techpub_sg/documents/packagingspec/en012702.pdf
footprint SOT-23-CT5_N (SOT23, 5-Leads, Body 2.9x1.6mm, Pitch 0.95mm, Lead Span 2.7mm, IPC Medium Density)
footprint SOT-23-CT5_L (SOT23, 5-Leads, Body 2.9x1.6mm, Pitch 0.95mm, Lead Span 2.7mm, IPC High Density)
footprint SOT-23-CT5_M (SOT23, 5-Leads, Body 2.9x1.6mm, Pitch 0.95mm, Lead Span 2.7mm, IPC Low Density)
pins: 1 ~{CS} (in), 2 VSS (power), 3 SCK (in), 4 SI/O (io), 5 VDD (power)

## TC77-5.0MOA
designator U?
Thermal Sensor with SPI Interface, 8-Pin SOIC, -55°C to +125°C Temperature; Manufacturer: Microchip; PartNumber: TC77-5.0MOA; DatasheetVersion: revA, Aug-2002; PackageVersion: revBB, Aug-2009; PackageReference: SOIC-OA8; PackageDescription: 8-Lead Plastic Small Outline (OA) - Narrow, 3.90mm Body [SOIC]; Supplier 1: Digi-Key; Supplier Part Number 1: TC77-5.0MOA-ND; Supplier 2: Farnell; Supplier Part Number 2: 1439514; Supplier 3: Newark; Supplier Part Number 3: 65K1077; Supplier 4: Mouser; Supplier Part Number 4: 579-TC77-5.0MOA; Mounting Technology: Surface Mount; Code_IPC: SOIC127P600-8; ComponentLink1Description: Manufacturer URL; ComponentLink1URL: http://www.microchip.com/; ComponentLink2Description: Datasheet; ComponentLink2URL: http://ww1.microchip.com/downloads/en/DeviceDoc/20092a.pdf; ComponentLink3Description: Package Specification; ComponentLink3URL: http://www.microchip.com/stellent/groups/techpub_sg/documents/packagingspec/en012702.pdf
footprint SOIC-OA8_N (SOIC, 8-Leads, Body 4.9x3.9mm, Pitch 1.27mm, IPC Medium Density)
footprint SOIC-OA8_L (SOIC, 8-Leads, Body 4.9x3.9mm, Pitch 1.27mm, IPC High Density)
footprint SOIC-OA8_M (SOIC, 8-Leads, Body 4.9x3.9mm, Pitch 1.27mm, IPC Low Density)
pins: 1 SI/O (io), 2 SCK (in), 3 NC, 4 VSS (power), 5 NC, 6 NC, 7 ~{CS} (in), 8 VDD (power)